# EAGLE library part MICRO_FIT_3.0_14POS_VERT (library UBCSolar)
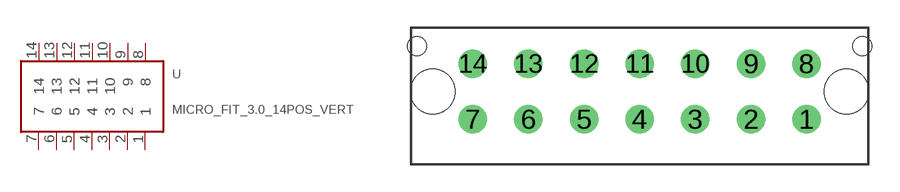
[diagram p11: symbol with the pads of MICRO_FIT_3.0_14POS_VERT; footprint MICRO_FIT_3.0_14POS_VERT]

Designator prefix -

## MICRO_FIT_3.0_14POS_VERT  [MICRO_FIT_3.0_14POS_VERT]
1  1
2  2
3  3
4  4
5  5
6  6
7  7
8  8
9  9
10  10
11  11
12  12
13  13
14  14

## Footprint MICRO_FIT_3.0_14POS_VERT (pad centres in mm)
Micro-fit 3.0 14 Position, vertical https://www.digikey.ca/product-detail/en/molex/0430451424/WM3259-ND/2405148
drill 1.02: 1 9,-1.5; 2 6,-1.5; 3 3,-1.5; 4 0,-1.5; 5 -3,-1.5; 6 -6,-1.5; 7 -9,-1.5; 8 9,1.5; 9 6,1.5; 10 3,1.5; 11 0,1.5; 12 -3,1.5; 13 -6,1.5; 14 -9,1.5
hole 2.41 at 11.15,0
hole 2.41 at -11.15,0
hole 1.02 at -12,2.44
hole 1.02 at 12,2.44